# EAGLE library part CM1213A−04SO (library on-semiconductor)
4-Channel Low Capacitance ESD Protection Array CM1213A−04SO has been designed to provide ESD protection for electronic components or subsystems requiring minimal capacitive loading. This device is ideal for protecting systems with high data and clock rates or for circuits requiring low capacitive loading. Each ESD channel consists of a pair of diodes in series which steer the positive or negative ESD current pulse to either the positive (VP) or negative (VN) supply rail. A Zener diode is embedded between VP and VN, offering two advantages. First, it protects the VCC rail against ESD strikes, and second, it eliminates the need for a bypass capacitor that would otherwise be needed for absorbing positive ESD strikes to ground. This device will protect against ESD pulses up to 8 kV per the IEC 61000−4−2 standard. This device is particularly well-suited for protecting systems using high-speed ports such as USB 2.0, IEEE1394 (Firewire, iLink), Serial ATA, DVI, HDMI and corresponding ports in removable storage, digital camcorders, DVD−RW drives and other applications where extremely low loading capacitance with ESD protection are required in a small package footprint.
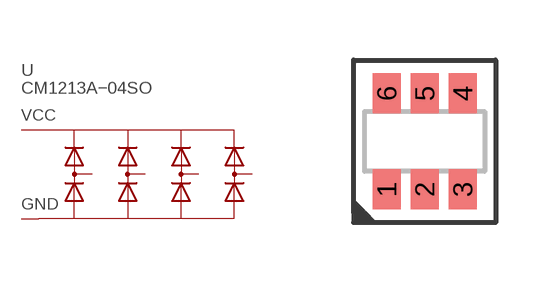
[diagram p2: symbol with the pads of TSOP-6; footprint TSOP-6]

Designator prefix U

## CM1213A−04SO  [TSOP-6]
1  CH1  pas
2  GND
3  CH2  pas
4  CH3  pas
5  VCC
6  CH4  pas

## Footprint TSOP-6 (pad centres in mm)
smd 0.7 x 1: 1 -0.95,-1.2; 2 0,-1.2; 3 0.95,-1.2; 4 0.95,1.2; 5 0,1.2; 6 -0.95,1.2